# Altium schematic symbol library Power.SchLib: 2 symbols
Pins are listed as number, name and electrical type; pins without a type are passive.

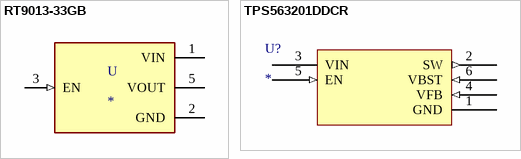
[diagram p0: symbols RT9013-33GB to TPS563201DDCR]

## RT9013-33GB
designator U
Linear Voltage Regulator IC 1 Output 500mA SOT-23-5; MF: Richtek USA; MP: RT9013-33GB; Availability: Unavailable; Price: None; SnapEDA_Link: https://www.snapeda.com/parts/RT9013-33GB/Richtek%20USA%20Inc./view-part/553199/?ref=snap; Value: *; Package: SOT-23-5 Richtek
footprint RT9013
pins: 1 VIN (power), 2 GND (power), 3 EN (in), 5 VOUT (power)

## TPS563201DDCR
designator U?
footprint SOT23-6_M (Footprint not found)
pins: 1 GND (power), 2 SW (out), 3 VIN (power), 4 VFB (in), 5 EN (in), 6 VBST (in)